# Altium integrated library Keystone.IntLib: 1 symbol
Pins are listed as number, name and electrical type; pins without a type are passive.

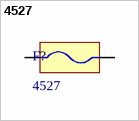
[diagram p0: symbol 4527]

## 4527
designator F?
5mm PC FUSE HOLDER
footprint 4527 (5mm PC FUSE HOLDER)
pins: 1, 2